# Altium schematic symbol library RPSLib_MotorController.SchLib: 4 symbols
Pins are listed as number, name and electrical type; pins without a type are passive.

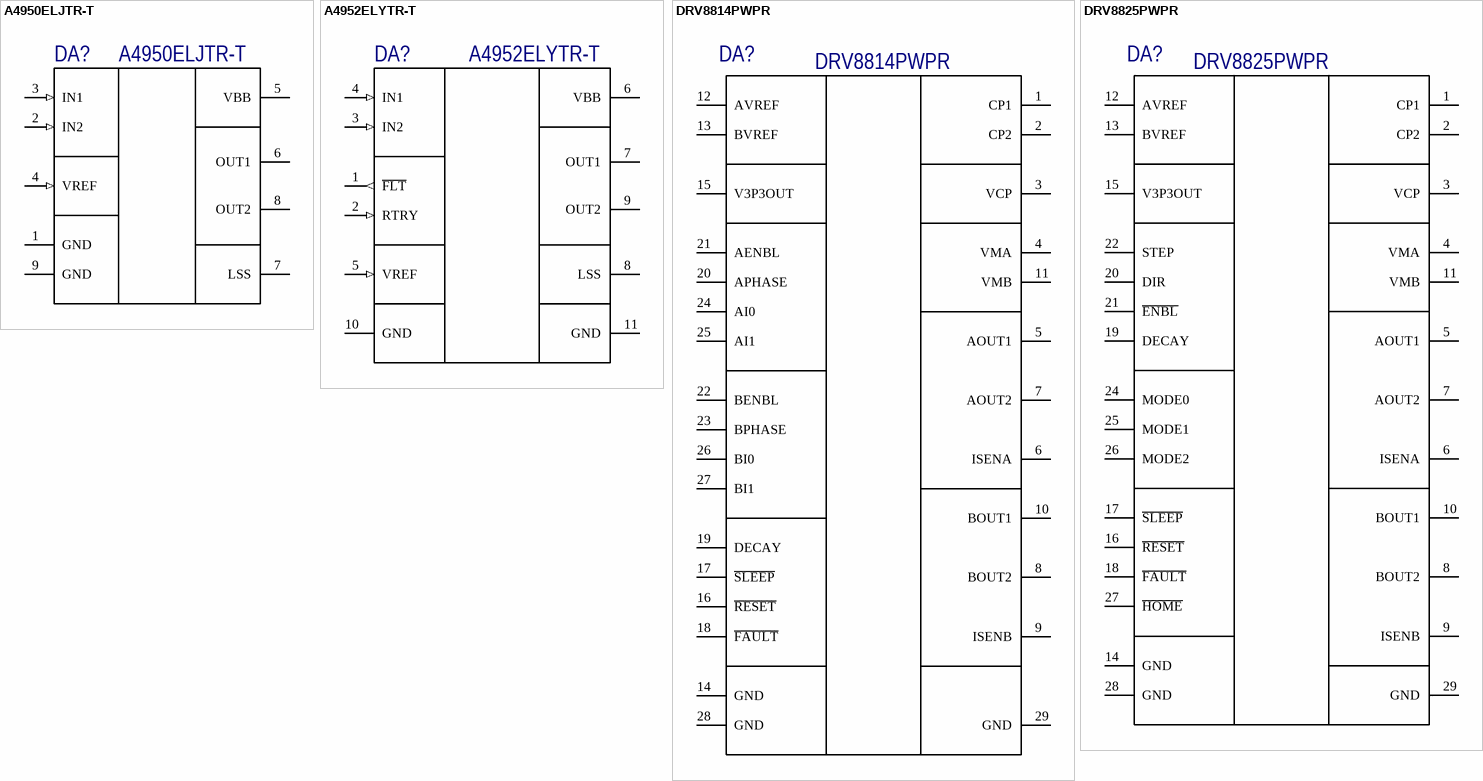
[diagram p0: symbols A4950ELJTR-T to DRV8825PWPR]

## A4950ELJTR-T
designator DA?
ALLEGRO MICROSYSTEMS - A4950ELJTR-T - Full Bridge DMOS PWM Motor Driver, 40V/3.5A/2 Outputs, SOIC-8; Min Supply Voltage: 8V; Max Supply Voltage: 40V; Number of Outputs: 1; Output Current: 3.5A; Motor Type: Brushed; Supplier 1: Digi-Key; Manufacturer: Allegro MicroSystems; Manufacturer Part Number: A4950ELJTR-T; RoHS: Yes; Category: Integrated Circuits (ICs); Stock 1: 7615; Pricing 1: 1=2,84000, 10=2,54700, 25=2,40760, 100=1,97950, 250=1,77620, 500=1,71200, 1000=1,42310 (USD); Mount: Surface Mount; Case/Package: SOIC; Number of Pins: 8; Min Operating Temperature: -40°C; Max Operating Temperature: 85°C; Packaging: Tape and Reel; Package Quantity: 1; Max Collector Current: 3.5A; Output Voltage: 40V; Collector Emitter Voltage (VCEO): 40V; Length: 4.9mm; Height: 1.55mm; Width: 3.9mm; Radiation Hardening: No; Lead Free: Lead Free; REACH SVHC: No SVHC; ComponentLink1URL: https://datasheet.ciiva.com/1958/a4950-datasheet-1958374.pdf?src-supplier=Digi-Key; ComponentLink1Description: https://datasheet.ciiva.com/1958/a4950-datasheet-1958374.pdf?src-supplier=Digi-Key; ComponentLink2URL: https://datasheet.ciiva.com/26941/getdatasheetpartid-367820-26941434.pdf?src-supplier=Verical; ComponentLink2Description: https://datasheet.ciiva.com/26941/getdatasheetpartid-367820-26941434.pdf?src-supplier=Verical; ComponentLink3URL: https://datasheet.ciiva.com/1608/1481251-1608443.pdf?src-supplier=Newark; ComponentLink3Description: https://datasheet.ciiva.com/1608/1481251-1608443.pdf?src-supplier=Newark; ComponentLink4URL: https://datasheet.ciiva.com/25626/0900766b8106a184-25626637.pdf?src-supplier=RSComponents; ComponentLink4Description: https://datasheet.ciiva.com/25626/0900766b8106a184-25626637.pdf?src-supplier=RSComponents; Supplier Part Number 1: 620-1400-1-ND
footprint SOIC127P600X170_HS-9N_allegro (SOIC, 8-Leads, Body 4,90x3,90mm, Pitch 1,27mm, Thermal Pad 3,30x2,41mm, IPC Medium Density)
pins: 1 GND (power), 2 IN2 (in), 3 IN1 (in), 4 VREF (in), 5 VBB (power), 6 OUT1, 7 LSS, 8 OUT2, 9 GND (power)

## A4952ELYTR-T
designator DA?
ALLEGRO MICROSYSTEMS - A4952ELYTR-T - MOTOR DVR, FULL, 10MSOP; Number of Outputs: 1; Output Current: 10mA; Output Voltage: 40V; Min Supply Voltage: 8V; Max Collector Current: 2A; Supplier 1: Digi-Key; Manufacturer: Allegro MicroSystems; Manufacturer Part Number: A4952ELYTR-T; RoHS: Yes; Category: Integrated Circuits (ICs); Stock 1: 4592; Pricing 1: 1=2,04000, 10=1,82900, 25=1,72520, 100=1,38000, 250=1,20752, 500=1,17300, 1000=0,93150 (USD); Mount: Surface Mount; Case/Package: MSOP; Number of Pins: 10; Min Operating Temperature: -40°C; Max Operating Temperature: 85°C; Max Supply Voltage: 40V; Packaging: Tape and Reel; Package Quantity: 4000; Length: 3mm; Height: 0.86mm; Width: 3mm; REACH SVHC: No SVHC; ComponentLink1URL: https://datasheet.ciiva.com/3229/a4952-3-datasheet-3229520.pdf?src-supplier=Avnet; ComponentLink1Description: https://datasheet.ciiva.com/3229/a4952-3-datasheet-3229520.pdf?src-supplier=Avnet; ComponentLink2URL: https://datasheet.ciiva.com/1608/1481259-1608444.pdf?src-supplier=Newark; ComponentLink2Description: https://datasheet.ciiva.com/1608/1481259-1608444.pdf?src-supplier=Newark; ComponentLink3URL: https://datasheet.ciiva.com/17233/a4952-3-datasheet-17233766.pdf?src-supplier=Avnet+Europe; ComponentLink3Description: https://datasheet.ciiva.com/17233/a4952-3-datasheet-17233766.pdf?src-supplier=Avnet+Europe; Supplier Part Number 1: 620-1451-1-ND
footprint TSSOP50P490X86_HS-11N_allegro (TSSOP, 10-Leads, Body 3,00x3,00mm, Pitch 0,50mm, Thermal Pad 1,98x1,73mm, IPC Medium Density)
pins: 1 ~{FLT} (out), 2 RTRY (in), 3 IN2 (in), 4 IN1 (in), 5 VREF (in), 6 VBB (power), 7 OUT1, 8 LSS, 9 OUT2, 10 GND (power), 11 GND (power)

## DRV8814PWPR
designator DA?
IC MOTOR DRIVER 8V-45V 28HTSSOP; Manufacturer: Texas Instruments; Output Current: 1.75A; Number of Outputs: 2; Min Supply Voltage: 8V; Max Supply Voltage: 45V; Interface: Parallel; Nominal Supply Current: 5mA; Output Voltage: 3.3V; Logic Function: AND; Description 1: TEXAS INSTRUMENTS         DRV8814PWPR             DC, DUAL, MOTOR DRIVER, 28-HTSSOP; Supplier 1: Digi-Key; Stock 1: 15621; Pricing 1: 1=3.72, 10=3.344, 100=2.7396, 500=2.33216, 1000=1.96689 (USD); Mount: Surface Mount; Case/Package: HTSSOP EP; Number of Pins: 28; Min Operating Temperature: -40°C; Max Operating Temperature: 85°C; Package Quantity: 2000; Packaging: Tape and Reel; Radiation Hardening: No; REACH SVHC: No SVHC; Lead Free: Lead Free; ComponentLink1URL: http://www.ti.com/lit/ds/symlink/drv8814.pdf?src-supplier=Digi-Key; ComponentLink1Description: http://www.ti.com/lit/ds/symlink/drv8814.pdf?src-supplier=Digi-Key; ComponentLink2URL: http://www.ti.com/lit/gpn/drv8814?src-supplier=Mouser; ComponentLink2Description: http://www.ti.com/lit/gpn/drv8814?src-supplier=Mouser; ComponentLink3URL: https://www.verical.com/server-webapp/html/getDatasheet?partID=318882&src-supplier=Verical; ComponentLink3Description: https://www.verical.com/server-webapp/html/getDatasheet?partID=318882&src-supplier=Verical; ComponentLink4URL: http://sg.element14.com/webapp/wcs/stores/servlet/OpenCAD?catalogId=15001&langId=65&id=800000278283&storeId=10191&returnURL=http%3A%2F%2Fsg.element14.com%2Ftexas-instruments%2Fdrv8814pwpr%2Fdc-dual-motor-driver-28-htssop%2Fdp%2F1895364&src-supplier=Element14; ComponentLink4Description: http://sg.element14.com/webapp/wcs/stores/servlet/OpenCAD?catalogId=15001&langId=65&id=800000278283&storeId=10191&returnURL=http%3A%2F%2Fsg.element14.com%2Ftexas-instruments%2Fdrv8814pwpr%2Fdc-dual-motor-driver-28-htssop%2Fdp%2F1895364&src-supplier=Element14; ComponentLink5URL: http://www.ti.com/general/docs/lit/getliterature.tsp?genericPartNumber=DRV8814&&fileType=pdf&src-supplier=Avnet; ComponentLink5Description: http://www.ti.com/general/docs/lit/getliterature.tsp?genericPartNumber=DRV8814&&fileType=pdf&src-supplier=Avnet; ComponentLink6URL: http://www.produktinfo.conrad.com/datenblaetter/1000000-1099999/001013561-da-01-en-IC_MOTOR_DRIVER_DRV8814PWPR_TSSOP_28_TID.pdf?src-supplier=Conrad; ComponentLink6Description: http://www.produktinfo.conrad.com/datenblaetter/1000000-1099999/001013561-da-01-en-IC_MOTOR_DRIVER_DRV8814PWPR_TSSOP_28_TID.pdf?src-supplier=Conrad; Manufacturer Part Number: DRV8814PWPR; Supplier Part Number 1: 296-28359-1-ND
footprint TSOP65P640X120_HS-29N (TSOP, 28-Leads, Body 9,70x4,40mm, Pitch 0,65mm, Thermal Pad 5,18x3,10mm, IPC Medium Density)
pins: 1 CP1, 2 CP2, 3 VCP, 4 VMA, 5 AOUT1, 6 ISENA, 7 AOUT2, 8 BOUT2, 9 ISENB, 10 BOUT1, 11 VMB, 12 AVREF, 13 BVREF, 14 GND, 15 V3P3OUT, 16 ~{RESET}, 17 ~{SLEEP}, 18 ~{FAULT}, 19 DECAY, 20 APHASE, 21 AENBL, 22 BENBL, 23 BPHASE, 24 AI0, 25 AI1, 26 BI0, 27 BI1, 28 GND, 29 GND

## DRV8825PWPR
designator DA?
IC MOTOR DRIVER PAR 28HTSSOP; Manufacturer: Texas Instruments; Output Current: 2.5A; Min Supply Voltage: 8V; Max Supply Voltage: 45V; Logic Function: AND; Supplier 1: Digi-Key; Stock 1: 63410; Pricing 1: 1=3.84, 10=3.452, 100=2.828, 500=2.4074, 1000=2.03034 (USD); Mount: Surface Mount; Case/Package: HTSSOP EP; Number of Pins: 28; Min Operating Temperature: -40°C; Max Operating Temperature: 85°C; Package Quantity: 1; Packaging: Tape and Reel; Nominal Supply Current: 2.5A; Type: Integrated Circuit (IC); Radiation Hardening: No; Lead Free: Lead Free; ComponentLink1URL: http://www.ti.com/lit/ds/symlink/drv8825.pdf?src-supplier=Avnet+Europe; ComponentLink1Description: http://www.ti.com/lit/ds/symlink/drv8825.pdf?src-supplier=Avnet+Europe; ComponentLink2URL: http://www.ti.com/general/docs/lit/getliterature.tsp?genericPartNumber=DRV8825&&fileType=pdf&src-supplier=Avnet; ComponentLink2Description: http://www.ti.com/general/docs/lit/getliterature.tsp?genericPartNumber=DRV8825&&fileType=pdf&src-supplier=Avnet; ComponentLink3URL: https://www.verical.com/server-webapp/html/getDatasheet?partID=625248&src-supplier=Verical; ComponentLink3Description: https://www.verical.com/server-webapp/html/getDatasheet?partID=625248&src-supplier=Verical; ComponentLink4URL: http://www.ti.com/lit/pdf/slyb191?src-supplier=Digi-Key; ComponentLink4Description: http://www.ti.com/lit/pdf/slyb191?src-supplier=Digi-Key; Manufacturer Part Number: DRV8825PWPR; Supplier Part Number 1: 296-29503-1-ND; Description 1: IC MOTOR DRIVER PAR 28HTSSOP
footprint TSOP65P640X120_HS-29N (TSOP, 28-Leads, Body 9,70x4,40mm, Pitch 0,65mm, Thermal Pad 5,18x3,10mm, IPC Medium Density)
pins: 1 CP1, 2 CP2, 3 VCP, 4 VMA, 5 AOUT1, 6 ISENA, 7 AOUT2, 8 BOUT2, 9 ISENB, 10 BOUT1, 11 VMB, 12 AVREF, 13 BVREF, 14 GND, 15 V3P3OUT, 16 ~{RESET}, 17 ~{SLEEP}, 18 ~{FAULT}, 19 DECAY, 20 DIR, 21 ~{ENBL}, 22 STEP, 24 MODE0, 25 MODE1, 26 MODE2, 27 ~{HOME}, 28 GND, 29 GND